# EAGLE library part TEENSY3.0 (library bt_arm)
Teensy 3.0 Arduino-compatible Kinetis ARM board by Paul Stoffregen http://www.pjrc.com/teensy/
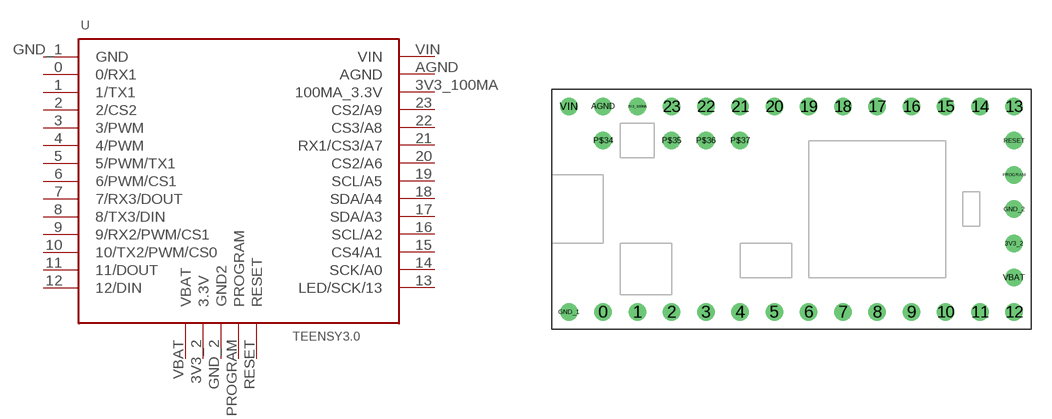
[diagram p3: symbol with the pads of TEENSY3.0; footprint TEENSY3.0]

Designator prefix U

## TEENSY3.0  [TEENSY3.0]
0  0/RX1
1  1/TX1
2  2/CS2
3  3/PWM
3V3_2  3.3V
3V3_100MA  100MA_3.3V
4  4/PWM
5  5/PWM/TX1
6  6/PWM/CS1
7  7/RX3/DOUT
8  8/TX3/DIN
9  9/RX2/PWM/CS1
10  10/TX2/PWM/CS0
11  11/DOUT
12  12/DIN
13  LED/SCK/13
14  SCK/A0
15  CS4/A1
16  SCL/A2
17  SDA/A3
18  SDA/A4
19  SCL/A5
20  CS2/A6
21  RX1/CS3/A7
22  CS3/A8
23  CS2/A9
AGND  AGND
GND_1  GND
GND_2  GND2
PROGRAM  PROGRAM
RESET  RESET
VBAT  VBAT
VIN  VIN

## Footprint TEENSY3.0 (pad centres in mm)
drill 0.8: 0 -13.97,-7.62; 1 -11.43,-7.62; 2 -8.89,-7.62; 3 -6.35,-7.62; 3V3_2 16.51,-2.54; 3V3_100MA -11.43,7.62; 4 -3.81,-7.62; 5 -1.27,-7.62; 6 1.27,-7.62; 7 3.81,-7.62; 8 6.35,-7.62; 9 8.89,-7.62; 10 11.43,-7.62; 11 13.97,-7.62; 12 16.51,-7.62; 13 16.51,7.62; 14 13.97,7.62; 15 11.43,7.62; 16 8.89,7.62; 17 6.35,7.62; 18 3.81,7.62; 19 1.27,7.62; 20 -1.27,7.62; 21 -3.81,7.62; 22 -6.35,7.62; 23 -8.89,7.62; AGND -13.97,7.62; GND_1 -16.51,-7.62; GND_2 16.51,0; P$34 -13.97,5.08; P$35 -8.89,5.08; P$36 -6.35,5.08; P$37 -3.81,5.08; PROGRAM 16.51,2.54; RESET 16.51,5.08; VBAT 16.51,-5.08; VIN -16.51,7.62